# Altium footprint library e-switch-tact.PcbLib: 7 footprints
Each footprint in its own frame and in the unit in brackets; x right, y up, seen from the top. Pads: shape width x height; smd on the part's side, far side on the other; paste and mask are expansions set on the pad; w line width, h text height; cw(c..) or ccw(c..) is an arc to the next point about the centre after c.
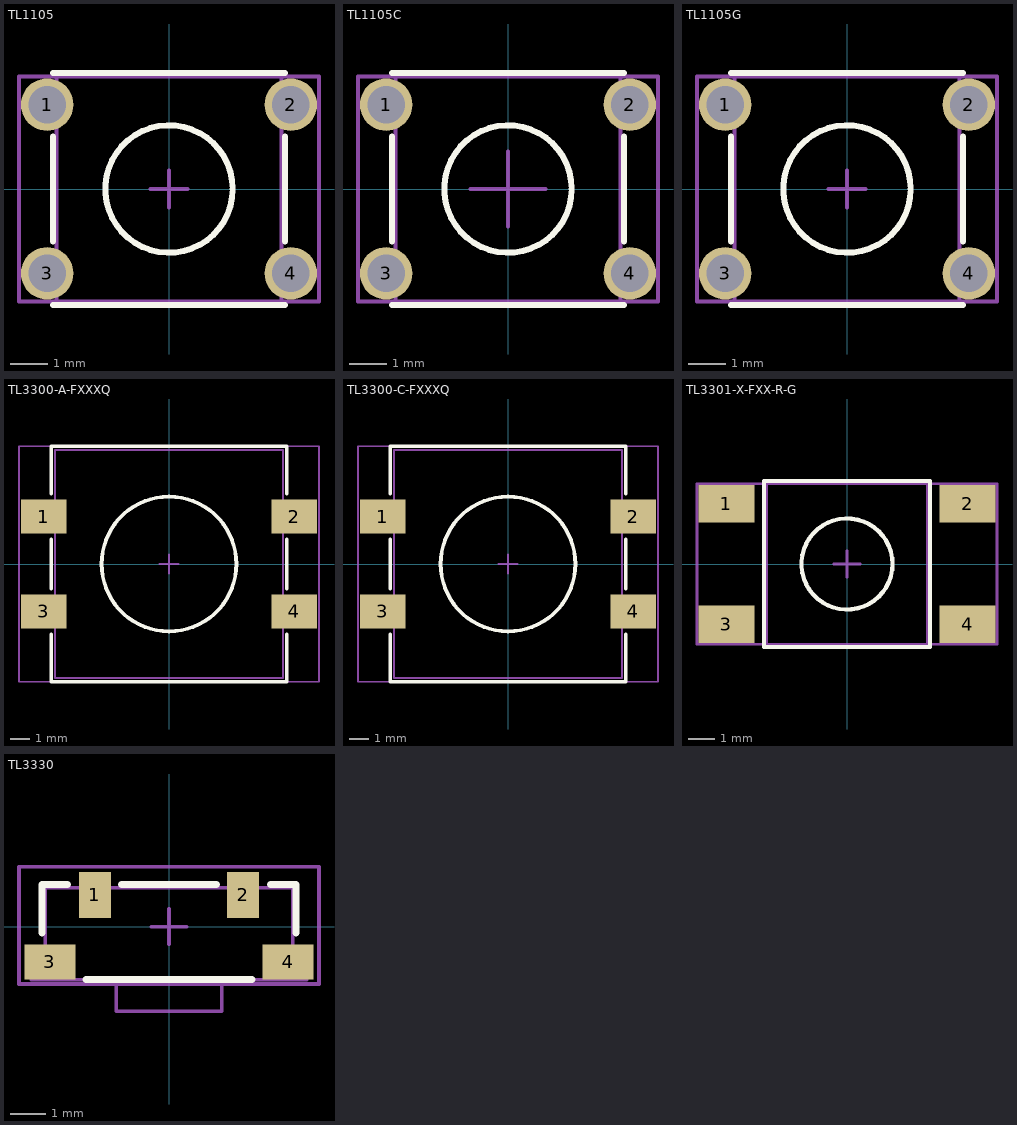
[diagram p0: the footprints below, top view; thin cyan lines are the x and y axes]

## TL1105 [mm] "Tact Switch 6mm x 6mm"
height 5
pads (4):
  round 1.4 hole 1: 1(-3.25,2.25) 2(3.25,2.25) 3(-3.25,-2.25) 4(3.25,-2.25)
Top Overlay:
  circle w0.16: c0,0 r1.7
  lines w0.16: -3.1,-3.1 3.1,-3.1 ; -3.1,-1.4 -3.1,1.4 ; -3.1,3.1 3.1,3.1 ; 3.1,-1.4 3.1,1.4
Mechanical 13:
  lines w0.1: -3,-3 3,-3 3,3 -3,3 -3,-3
  text ".Designator" at -2.55,-0.35 h0.5
Mechanical 15:
  lines w0.1: -0.5,0 0.5,0 ; 0,-0.5 0,0.5 ; -4,-3 -4,3 4,3 4,-3 -4,-3
3D body: height 5, standoff -2, extent -3.425,-3 3.425,3

## TL1105C [mm] "Tact Switch 6mm x 6mm x 8mm"
height 9.7
pads (4):
  round 1.4 hole 1: 1(-3.25,2.25) 2(3.25,2.25) 3(-3.25,-2.25) 4(3.25,-2.25)
Top Overlay:
  circle w0.16: c0,0 r1.7
  lines w0.16: -3.1,-3.1 3.1,-3.1 ; -3.1,-1.4 -3.1,1.4 ; -3.1,3.1 3.1,3.1 ; 3.1,-1.4 3.1,1.4
Mechanical 13:
  lines w0.1: -3,-3 -3,3 3,3 3,-3 -3,-3
Mechanical 15:
  lines w0.1: -1,0 1,0 ; 0,-1 0,1 ; -4,-3 4,-3 4,3 -4,3 -4,-3
  text ".Designator" at -2,-2.5 h0.5
3D body: height 8, standoff -3.5, extent -3.4,-3 3.4,3

## TL1105G [mm] "Tact Switch 6mm x 6mm"
height 9.7
pads (4):
  round 1.4 hole 1: 1(-3.25,2.25) 2(3.25,2.25) 3(-3.25,-2.25) 4(3.25,-2.25)
Top Overlay:
  circle w0.16: c0,0 r1.7
  lines w0.16: -3.1,-3.1 3.1,-3.1 ; -3.1,-1.4 -3.1,1.4 ; -3.1,3.1 3.1,3.1 ; 3.1,-1.4 3.1,1.4
Mechanical 13:
  lines w0.1: -3,-3 -3,3 3,3 3,-3 -3,-3
  text ".Designator" at -2.55,-0.35 h0.5
Mechanical 15:
  lines w0.1: -0.5,0 0.5,0 ; 0,-0.5 0,0.5 ; -4,-3 4,-3 4,3 -4,3 -4,-3
3D body: height 9.5, standoff -3.5, extent -3.95,-3.3 3.95,3.3

## TL3300-A-FXXXQ [mm] "SMD Tact Switch 12mm x 12mm, isometric"
height 8.5
pads (4):
  rect 2.4x1.8 smd: 1(-6.6,2.5) 2(6.6,2.5) 3(-6.6,-2.5) 4(6.6,-2.5)
Top Overlay:
  circle w0.2: c0,0 r3.55
  lines w0.2: -6.2,-3.7 -6.2,-6.2 6.2,-6.2 6.2,-3.7 ; -6.2,-1.3 -6.2,1.3 ; -6.2,3.7 -6.2,6.2 6.2,6.2 6.2,3.7 ; 6.2,-1.3 6.2,1.3
Mechanical 13:
  lines w0.1: -0.5,0 0.5,0 ; 0,-0.5 0,0.5 ; -6,-6 -6,6 6,6 6,-6 -6,-6
Mechanical 15:
  lines w0.1: -7.9,-6.2 7.9,-6.2 7.9,6.2 -7.9,6.2 -7.9,-6.2
  text ".Designator" at -2.55,-0.35 h0.5
3D body: height 7.62, standoff 0.02, extent -7.5,-6.1 7.5,5.9

## TL3300-C-FXXXQ [mm] "SMD Tact Switch 12mm x 12mm, Gull Wing Termination"
height 8.5
pads (4):
  rect 2.4x1.8 smd: 1(-6.6,2.5) 2(6.6,2.5) 3(-6.6,-2.5) 4(6.6,-2.5)
Top Overlay:
  circle w0.2: c0,0 r3.55
  lines w0.2: -6.2,-3.7 -6.2,-6.2 6.2,-6.2 6.2,-3.7 ; -6.2,-1.3 -6.2,1.3 ; -6.2,3.7 -6.2,6.2 6.2,6.2 6.2,3.7 ; 6.2,-1.3 6.2,1.3
Mechanical 13:
  lines w0.1: -0.5,0 0.5,0 ; 0,-0.5 0,0.5 ; -6,-6 -6,6 6,6 6,-6 -6,-6
Mechanical 15:
  lines w0.1: -7.9,-6.2 7.9,-6.2 7.9,6.2 -7.9,6.2 -7.9,-6.2
  text ".Designator" at -2.55,-0.35 h0.5
3D body: height 8.5, standoff 3.5, extent -3.522,-3.543 3.55,3.543
3D body: height 3.5, standoff 0, extent -6,-6 6,6

## TL3301-X-FXX-R-G [mm] "SMD Tact Switch 6mm x 6mm, Gull Wing Termination"
height 3.4
pads (4):
  rect 2.1x1.4 smd: 1(-4.5,2.25) 2(4.5,2.25) 3(-4.5,-2.25) 4(4.5,-2.25)
Top Overlay:
  circle w0.16: c0,0 r1.7
  lines w0.16: -3.1,-3.1 3.1,-3.1 3.1,3.1 -3.1,3.1 -3.1,-3.1
Mechanical 13:
  lines w0.1: -3,-3 3,-3 3,3 -3,3 -3,-3
  text ".Designator" at -2.55,-0.35 h0.5
Mechanical 15:
  lines w0.1: -0.5,0 0.5,0 ; 0,-0.5 0,0.5 ; -5.6,-3 -5.6,3 5.6,3 5.6,-3 -5.6,-3
3D body: height 5, standoff -0.05, extent -4.075,-3 4.075,3

## TL3330 [mm] "Tact Swithc SMT - Right Angle"
height 3.4
pads (4):
  rect 0.9x1.3 smd: 1(-2.1,0.9) 2(2.1,0.9)
  rect 1.45x1 smd: 3(-3.375,-1) 4(3.375,-1)
Top Overlay:
  lines w0.2: -3.6,-0.175 -3.6,1.2 -2.875,1.2 ; -2.35,-1.5 2.35,-1.5 ; -1.35,1.2 1.35,1.2 ; 2.875,1.2 3.6,1.2 3.6,-0.175
Mechanical 13:
  lines w0.1: -0.5,0 0.5,0 ; 0,-0.5 0,0.5 ; -3.9,-0.8 -3.9,-0.8 ; -3.9,-0.8 -3.5,-0.8 -3.5,1.1 3.5,1.1 3.5,-0.8 3.9,-0.8 3.9,-1.5 1.5,-1.5 ; -3.9,-0.8 -3.9,-1.5 -3.5,-1.5 -1.5,-1.5 ; -1.5,-1.5 1.5,-1.5 ; -1.5,-1.5 -1.5,-2.4 1.5,-2.4 1.5,-1.5
Mechanical 15:
  lines w0.1: -4.25,-1.625 4.25,-1.625 4.25,1.7 -4.25,1.7 -4.25,-1.625
  text ".Designator" at -2.55,-0.35 h0.5
3D body: height 3.5, standoff 0, extent -3.9,-2.45 3.9,1.25